# Altium schematic symbol library SCH - PASSIVES - R_CONFIG.SCHLIB: 1 symbol
Pins are listed as number, name and electrical type; pins without a type are passive.

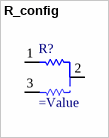
[diagram p0: symbol R_config]

## R_config
designator R?
Solder resistor/jumper between pads 1 and 2 for standard function. Solder resistor between pads 2 and 3 for alternative function
pins: 1, 2, 3